# EAGLE library part REF5025AIDR (library open_covg)
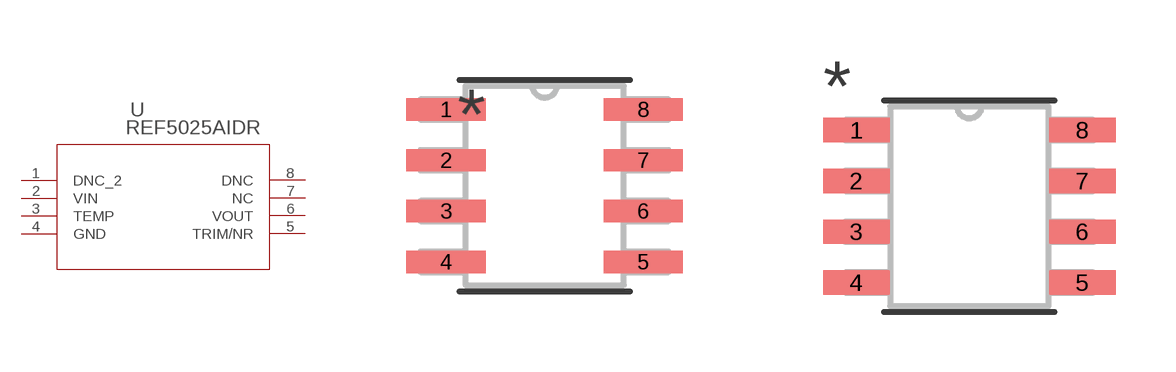
[diagram p12: symbol with the pads of D8; footprints D8, D8-M]

Designator prefix U

## REF5025AIDR (BUILT_BY: EMA_UL_Team; MANUFACTURER_PART_NUMBER: REF5025AIDR; VENDOR: Texas Instruments)  [D8]
1  DNC_2  pas
2  VIN  in
3  TEMP  pas
4  GND  pwr
5  TRIM/NR  pas
6  VOUT  out
7  NC  nc
8  DNC  pas

## REF5025AIDRD8-M (BUILT_BY: EMA_UL_Team; MANUFACTURER_PART_NUMBER: REF5025AIDR; VENDOR: Texas Instruments)  [D8-M]
Pads as for D8

## REF5025AIDRD8-L (BUILT_BY: EMA_UL_Team; MANUFACTURER_PART_NUMBER: REF5025AIDR; VENDOR: Texas Instruments)  [D8-L]
Pads as for D8

## Footprint D8 (pad centres in mm)
smd 1.981 x 0.559: 1 -2.464,1.905; 2 -2.464,0.635; 3 -2.464,-0.635; 4 -2.464,-1.905; 5 2.464,-1.905; 6 2.464,-0.635; 7 2.464,0.635; 8 2.464,1.905

## Footprint D8-M (pad centres in mm)
smd 1.664 x 0.61: 1 -2.826,1.905; 2 -2.826,0.635; 3 -2.826,-0.635; 4 -2.826,-1.905; 5 2.826,-1.905; 6 2.826,-0.635; 7 2.826,0.635; 8 2.826,1.905

## Footprint D8-L (pad centres in mm)
smd 1.257 x 0.508: 1 -2.623,1.905; 2 -2.623,0.635; 3 -2.623,-0.635; 4 -2.623,-1.905; 5 2.623,-1.905; 6 2.623,-0.635; 7 2.623,0.635; 8 2.623,1.905